# Altium footprint library M4QIDB-PCB-01.PcbLib: 64 footprints (part 1 of 4)
Each footprint in its own frame and in the unit in brackets; x right, y up, seen from the top. Pads: shape width x height; smd on the part's side, far side on the other; paste and mask are expansions set on the pad; w line width, h text height; cw(c..) or ccw(c..) is an arc to the next point about the centre after c.
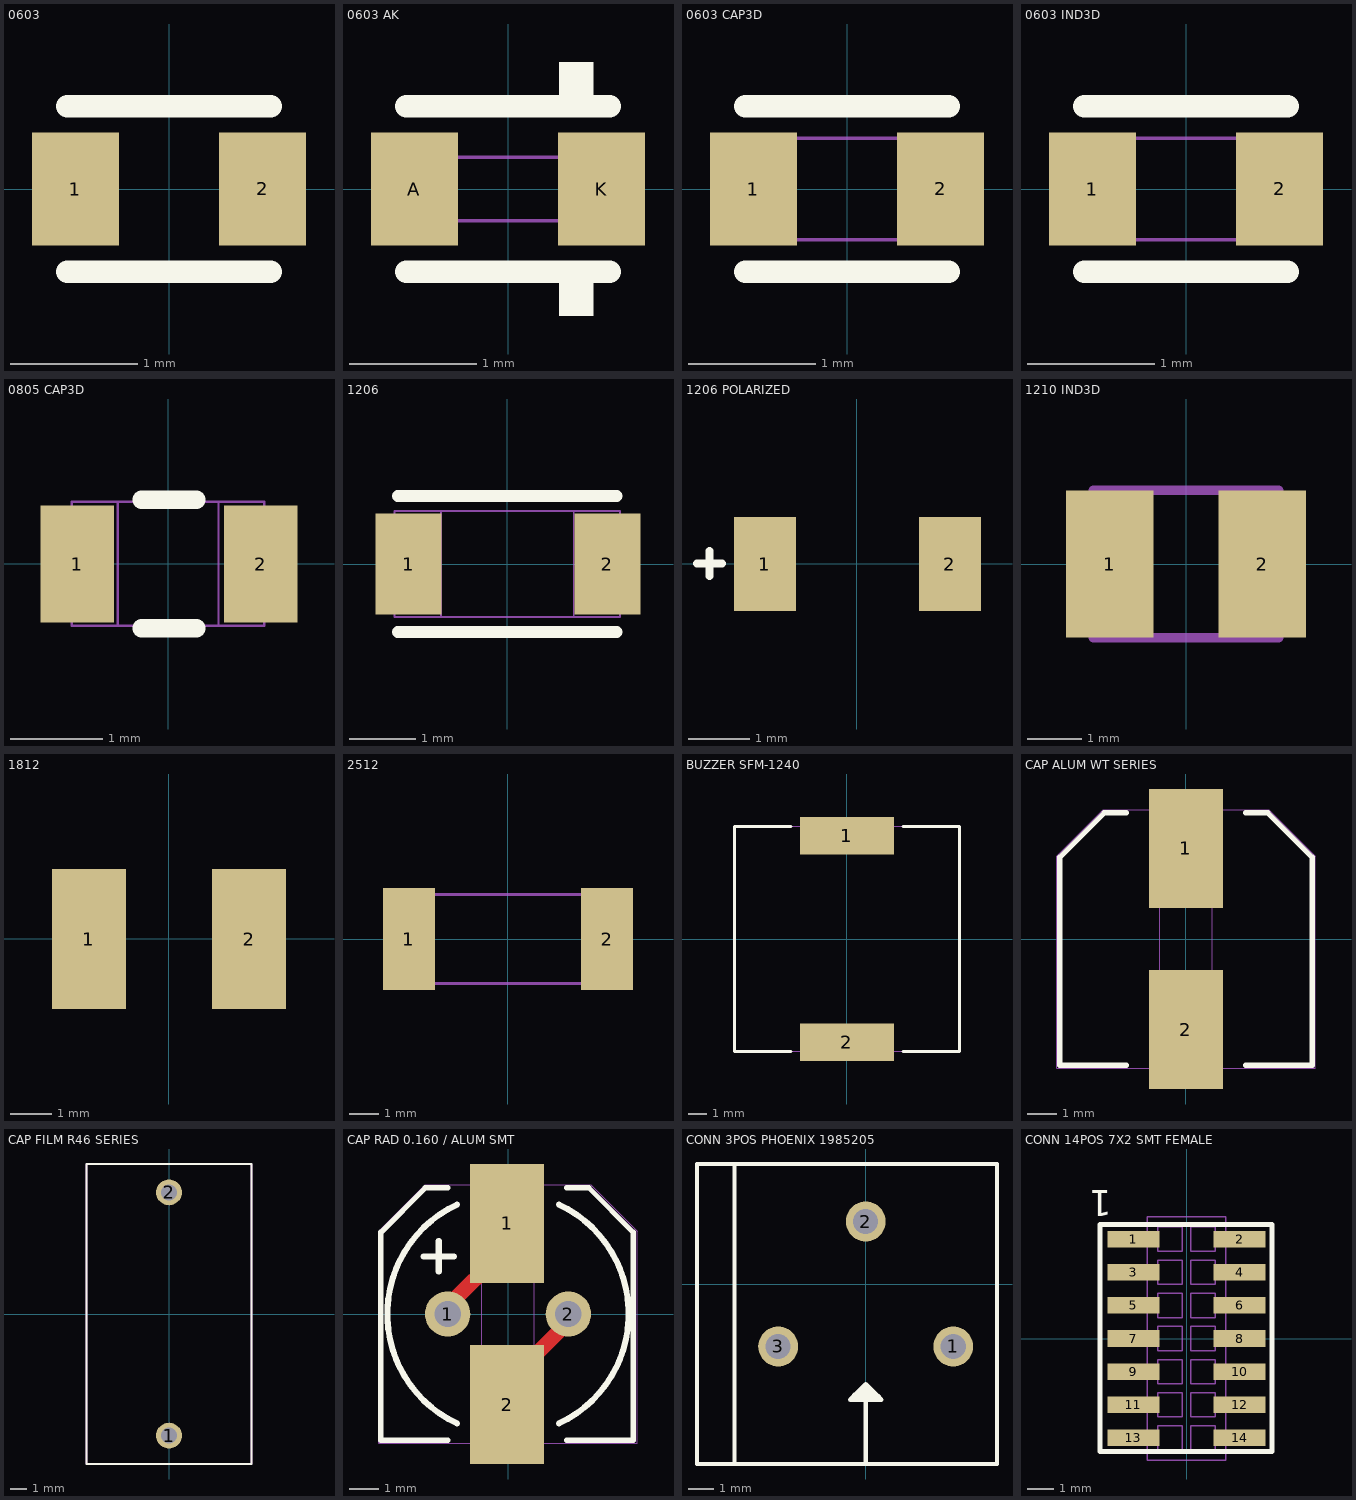
[diagram p0: the footprints below, top view; thin cyan lines are the x and y axes]

## 0603 [mil]
pads (2):
  rect 27x35 smd: 1(-29,0) 2(29,0)
Top Overlay:
  lines w7: -31.5,-25.59 31.5,-25.59 ; -31.5,25.59 31.5,25.59
3D body: height 21.65, standoff 0, extent -33.46,-17.71 -23.62,17.72
3D body: height 21.65, standoff 0, extent 23.63,-17.71 33.47,17.72
3D body: height 21.65, standoff 0, extent -23.62,-17.71 23.63,17.72

## 0603 AK [mil]
pads (2):
  rect 27x35 smd: A(-29,0) K(29,0)
Top Overlay:
  rectangle: 15.75,25.59 26.57,39.37
  region: 26.58,-25.59 15.75,-25.59 15.75,-39.37 26.58,-39.37
  lines w7: -31.5,-25.59 31.5,-25.59 ; -31.5,25.59 31.5,25.59
Mechanical 7:
  lines w1: -23.62,-9.84 23.62,-9.84 23.62,9.84 -23.62,9.84 -23.62,-9.84
3D body: height 29.53, standoff 9.84, extent -23.62,-9.84 23.62,9.84
3D body: height 9.84, standoff 0, extent -23.62,-17.71 23.63,17.72
3D body: height 9.84, standoff 0, extent 23.63,-17.71 33.47,17.72
3D body: height 9.84, standoff 0, extent -33.46,-17.71 -23.62,17.72

## 0603 CAP3D [mil]
pads (2):
  rect 27x35 smd: 1(-29,0) 2(29,0)
Top Overlay:
  lines w7: -31.5,-25.59 31.5,-25.59 ; -31.5,25.59 31.5,25.59
Mechanical 7:
  lines w1: -23.62,-15.75 -23.62,15.75 ; 23.62,-15.75 23.62,15.75 ; -37.4,-15.75 -37.4,15.75 37.4,15.75 37.4,-15.75 -37.4,-15.75
3D body: height 35.43, standoff 0, extent -37.4,-15.75 -23.62,15.75
3D body: height 35.43, standoff 0, extent -23.62,-15.75 23.62,15.75
3D body: height 35.43, standoff 0, extent 23.62,-15.75 37.4,15.74

## 0603 IND3D [mil]
pads (2):
  rect 27x35 smd: 1(-29,0) 2(29,0)
Top Overlay:
  lines w7: -31.5,-25.59 31.5,-25.59 ; -31.5,25.59 31.5,25.59
Mechanical 7:
  lines w1: -23.62,-15.75 -23.62,15.75 ; 23.62,-15.75 23.62,15.75 ; -37.4,-15.75 37.4,-15.75 37.4,15.75 -37.4,15.75 -37.4,-15.75
3D body: height 31.5, standoff 0, extent 23.62,-15.75 37.4,15.74
3D body: height 31.5, standoff 0, extent -23.62,-15.75 23.62,15.75
3D body: height 31.5, standoff 0, extent -37.4,-15.75 -23.62,15.75

## 0805 CAP3D [mm]
pads (2):
  rect 0.8x1.27 smd: 1(-0.99,-0.003) 2(1.011,-0.003)
Top Overlay:
  lines w0.2: -0.289,-0.703 0.31,-0.703 ; -0.289,0.697 0.31,0.697
Mechanical 7:
  lines w0.025: -0.55,-0.675 -0.55,0.675 ; 0.55,-0.675 0.55,0.675 ; -1.05,-0.675 -1.05,0.675 1.05,0.675 1.05,-0.675 -1.05,-0.675
3D body: height 0.95, standoff 0, extent -1.05,-0.675 -0.55,0.675
3D body: height 0.95, standoff 0, extent 0.55,-0.675 1.05,0.675
3D body: height 0.95, standoff 0, extent -0.55,-0.675 0.55,0.675

## 1206 [mm]
pads (2):
  rect 1x1.524 smd: 1(-1.489,-0.003) 2(1.51,-0.003)
Top Overlay:
  lines w0.178: -1.651,-1.025 1.651,-1.025 ; -1.651,1.025 1.651,1.025
Mechanical 7:
  lines w0.025: -1.7,-0.801 -1.7,0.799 1.7,0.799 ; -1.7,-0.798 1.7,-0.798 1.7,0.802 ; -1,-0.798 -1,0.799 ; 1,-0.798 1,0.799
3D body: height 1.3, standoff 0, extent 1,-0.799 1.7,0.801
3D body: height 1.3, standoff 0, extent -1.7,-0.801 -1,0.799
3D body: height 1.3, standoff 0, extent -1,-0.798 1,0.799

## 1206 POLARIZED [mm]
pads (2):
  rect 1x1.524 smd: 1(-1.489,-0.003) 2(1.51,-0.003)
Top Overlay:
  lines w0.127: -2.591,0.003 -2.184,0.003 ; -2.388,-0.2 -2.388,0.206

## 1210 IND3D [mm]
pads (2):
  rect 1.6x2.7 smd: 1(-1.4,0) 2(1.4,0)
Mechanical 7:
  lines w0.178: -1,-1.35 -1,1.35 ; 1,-1.35 1,1.35 ; -1.7,-1.35 1.7,-1.35 1.7,1.35 -1.7,1.35 -1.7,-1.35
3D body: height 1.7, standoff 0, extent -1,-1.35 1,1.35
3D body: height 1.7, standoff 0, extent -1.7,-1.35 -1,1.35
3D body: height 1.7, standoff 0, extent 1,-1.35 1.7,1.35

## 1812 [mm]
pads (2):
  rect 1.8x3.4 smd: 1(-1.94,-0.003) 2(1.961,-0.003)

## 2512 [mm]
pads (2):
  rect 1.8x3.5 smd: 1(-3.4,0) 2(3.4,0)
Mechanical 7:
  lines w0.1: -2.667,-1.524 -2.667,1.524 ; 2.667,-1.524 2.667,1.524 ; -3.175,-1.524 3.175,-1.524 3.175,1.524 -3.175,1.524 -3.175,-1.524
3D body: height 0.76, standoff 0, extent 2.667,-1.524 3.175,1.524
3D body: height 0.76, standoff 0, extent -2.667,-1.524 2.667,1.524
3D body: height 0.76, standoff 0, extent -3.175,-1.524 -2.667,1.524

## BUZZER SFM-1240 [mm]
pads (2):
  rect 5x2 smd: 1(0,5.5) 2(0,-5.5)
Top Overlay:
  lines w0.178: -3,-6 -6,-6 -6,6 -3,6 ; 3,-6 6,-6 6,6 3,6
Mechanical 7:
  lines w0.025: -2,6 -2,4.8 2,4.8 2,6 ; -6,-6 6,-6 6,6 -6,6 -6,-6
3D body: height 0.7, standoff 0, extent -2,4.8 2,6
3D body: height 0.7, standoff 0, extent -2,-6 2,-4.8
3D body: height 0.7, standoff 0, extent -6,-6 6,6
3D body: height 3, standoff 0.7, extent -6,-6 6,6

## CAP ALUM WT SERIES [mm]
pads (2):
  rect 2.5x4 smd: 1(0,3.05) 2(0,-3.05)
Top Overlay:
  lines w0.178: -4.25,2.25 -4.25,2.75 -2.75,4.25 -2,4.25 ; -4.25,2.7 -4.25,2.65 -4.25,-4.25 -2,-4.25 ; 2,-4.25 4.25,-4.25 4.25,2.65 ; 2,4.25 2.75,4.25 4.25,2.75 4.25,2.125
Mechanical 7:
  lines w0.025: -1.016,-4.35 -0.889,-4.35 -0.889,4.35 ; 0.889,-4.35 0.889,4.35 ; -4.35,-4.35 -4.35,2.794 -2.794,4.35 2.794,4.35 4.35,2.794 4.35,-4.35 -4.35,-4.35 ; -0.55,-4.45 0.55,-4.45 0.55,-2.1 ccw(c0,-2.1) -0.55,-2.1 -0.55,-4.45 ; -0.55,2.1 ccw(c0,2.1) 0.55,2.1 0.55,4.45 -0.55,4.45 -0.55,2.1
3D body: height 1, standoff 0.2, extent 0.889,-4.35 4.35,4.35
3D body: height 1, standoff 0.3, extent -0.889,-4.35 0.889,4.35
3D body: height 11.3, standoff 1, extent -4.216,-4.241 4.25,4.242
3D body: height 1, standoff 0.2, extent -4.35,-4.35 -0.889,4.35
3D body: height 0.3, standoff 0, extent -0.55,2.1 0.55,4.45
3D body: height 0.3, standoff 0, extent -0.55,1.551 0.546,2.649
3D body: height 0.3, standoff 0, extent -0.55,-4.45 0.55,-2.1
3D body: height 0.3, standoff 0, extent -0.546,-2.649 0.55,-1.551

## CAP FILM R46 SERIES [mm]
height 16
pads (2):
  round 1.6 hole 1 paste+0: 1(0,-7.5) 2(0,7.5)
Top Overlay:
  lines w0.127: -5.1,-9.25 -5.1,9.25 5.1,9.25 5.1,-9.25 -5.1,-9.25
Mechanical 7:
  lines w0.127: -5.1,-9.25 -5.1,9.25 5.1,9.25 5.1,0.95 5.1,-9.25 -5.1,-9.25
3D body: height 0, standoff -4, extent -0.397,7.101 0.4,7.899
3D body: height 0, standoff -4, extent -0.397,-7.899 0.4,-7.101
3D body: height 16, standoff 0, extent -5.1,-9.25 5.1,9.25

## CAP RAD 0.160 / ALUM SMT [mil]
pads (4):
  round 60 hole 35: 1(-80,0) 2(80,0)
  rect 98.43x157.48 smd: 1(-1.26,120.08) 2(-1.26,-120.08)
Top Layer:
  lines w20: -80,0 -80,9.84 -8.15,81.69 -8.15,106.3 ; 12.52,-77.76 80,-10.28 80,0
Top Overlay:
  lines w7: -168.58,88.58 -168.58,108.27 -109.53,167.32 -80,167.32 ; -168.58,106.3 -168.58,104.33 -168.58,-167.32 -80,-167.32 ; 77.48,-167.32 166.06,-167.32 166.06,104.33 ; 77.48,167.32 107.01,167.32 166.06,108.27 166.06,83.66
  lines w8: -111.81,76.5 -71.81,76.5 ; -91.81,56.5 -91.81,96.5 ; -67.62,-145.01 cw(c0,0) -67.62,145.01 ; 67.62,-145.01 ccw(c0,0) 67.62,145.01
Mechanical 7:
  lines w0.98: -21.65,-82.67 cw(c0,-82.67) 21.65,-82.67 ; -21.65,82.68 ccw(c0,82.68) 21.65,82.68
  lines w1: -40,-171.25 -35,-171.25 -35,171.27 ; -21.65,-82.67 -21.65,-175.19 21.65,-175.19 21.65,-82.67 ; -21.65,82.68 -21.65,175.2 21.65,175.2 21.65,82.68 ; 35,-171.25 35,171.27 ; -171.26,-171.25 171.26,-171.25 171.26,110.01 110,171.27 -110,171.27 -171.26,110.01 -171.26,-171.25
3D body: height 11.81, standoff 0, extent -21.48,-104.28 21.66,-61.06
3D body: height 11.81, standoff 0, extent -21.65,-175.19 21.65,-82.67
3D body: height 11.81, standoff 0, extent -21.66,61.07 21.48,104.29
3D body: height 11.81, standoff 0, extent -21.65,82.68 21.65,175.2
3D body: height 39.37, standoff 7.87, extent -171.26,-171.25 -35,171.27
3D body: height 444.88, standoff 39.37, extent -166,-166.98 167.32,167
3D body: height 39.37, standoff 11.81, extent -35,-171.25 35,171.27
3D body: height 39.37, standoff 7.87, extent 35,-171.25 171.26,171.27

## CONN 3POS PHOENIX 1985205 [mm]
pads (3):
  round 1.6 hole 1: 1(3.5,-2.5) 2(0,2.5) 3(-3.5,-2.5)
Top Overlay:
  lines w0.178: -0.075,-4.25 0.25,-4.25 0.325,-4.325 -0.325,-4.325 -0.475,-4.475 0.475,-4.475 0.625,-4.625 ; 0,-7.2 0,-4 ; -5.25,-7.2 -6.75,-7.2 -6.75,4.8 -5.25,4.8 ; -5.25,-7.2 -5.25,4.8 ; -5.25,-7.2 5.25,-7.2 5.25,4.8 -5.25,4.8 ; 0,-4 0.625,-4.625 ; 0,-4 -0.625,-4.625 0.625,-4.625
3D body: height 13.1, standoff -3.5, extent -6.75,-7.2 5.25,4.8

## CONN 14POS 7X2 SMT FEMALE [mm]
pads (14):
  rect 2x0.635 smd: 1(-2.032,3.81) 2(2.032,3.81) 3(-2.032,2.54) 4(2.032,2.54) 5(-2.032,1.27) 6(2.032,1.27) 7(-2.032,0) 8(2.032,0) 9(-2.032,-1.27) 10(2.032,-1.27) 11(-2.032,-2.54) 12(2.032,-2.54) 13(-2.032,-3.81) 14(2.032,-3.81)
Top Overlay:
  lines w0.2: -3.319,-4.327 3.281,-4.327 3.281,4.373 -3.319,4.373 -3.319,-4.327
  text "1" at -2.87,5.69 h1
Mechanical 7:
  lines w0.05: -1.5,-4.01 -2.5,-4.01 -2.5,-3.61 -1.5,-3.61 ; -1.5,-2.74 -2.5,-2.74 -2.5,-2.34 -1.5,-2.34 ; -1.5,-1.47 -2.5,-1.47 -2.5,-1.07 -1.5,-1.07 ; -1.5,-0.2 -2.5,-0.2 -2.5,0.2 -1.5,0.2 ; -1.5,1.07 -2.5,1.07 -2.5,1.47 -1.5,1.47 ; -1.5,2.34 -2.5,2.34 -2.5,2.74 -1.5,2.74 ; -1.5,3.61 -2.5,3.61 -2.5,4.01 -1.5,4.01 ; 1.5,-4.01 2.5,-4.01 2.5,-3.61 1.5,-3.61 ; 1.5,-2.74 2.5,-2.74 2.5,-2.34 1.5,-2.34 ; 1.5,-1.47 2.5,-1.47 2.5,-1.07 1.5,-1.07 ; 1.5,-0.2 2.5,-0.2 2.5,0.2 1.5,0.2 ; 1.5,1.07 2.5,1.07 2.5,1.47 1.5,1.47 ; 1.5,2.34 2.5,2.34 2.5,2.74 1.5,2.74 ; 1.5,3.61 2.5,3.61 2.5,4.01 1.5,4.01 ; -1.5,-4.675 1.5,-4.675 1.5,4.675 -1.5,4.675 -1.5,-4.675 ; -1.1,-4.275 -0.635,-4.275 -0.17,-4.275 -0.17,-3.345 -0.635,-3.345 -1.1,-3.345 -1.1,-3.81 -1.1,-4.275 ; -1.1,-3.005 -0.635,-3.005 -0.17,-3.005 -0.17,-2.075 -0.635,-2.075 -1.1,-2.075 -1.1,-2.54 -1.1,-3.005 ; -1.1,-1.735 -0.635,-1.735 -0.17,-1.735 -0.17,-0.805 -0.635,-0.805 -1.1,-0.805 -1.1,-1.27 -1.1,-1.735 ; -1.1,-0.465 -0.635,-0.465 -0.17,-0.465 -0.17,0.465 -0.635,0.465 -1.1,0.465 -1.1,0 -1.1,-0.465 ; -1.1,0.805 -0.635,0.805 -0.17,0.805 -0.17,1.735 -0.635,1.735 -1.1,1.735 -1.1,1.27 -1.1,0.805 ; -1.1,2.075 -0.635,2.075 -0.17,2.075 -0.17,3.005 -0.635,3.005 -1.1,3.005 -1.1,2.54 -1.1,2.075 ; -1.1,3.345 -0.635,3.345 -0.17,3.345 -0.17,4.275 -0.635,4.275 -1.1,4.275 -1.1,3.81 -1.1,3.345 ; 0.17,-4.275 0.17,-3.345 0.635,-3.345 1.1,-3.345 1.1,-3.81 1.1,-4.275 0.635,-4.275 0.17,-4.275 ; 0.17,-3.005 0.17,-2.075 0.635,-2.075 1.1,-2.075 1.1,-2.54 1.1,-3.005 0.635,-3.005 0.17,-3.005 ; 0.17,-1.735 0.17,-0.805 0.635,-0.805 1.1,-0.805 1.1,-1.27 1.1,-1.735 0.635,-1.735 0.17,-1.735 ; 0.17,-0.465 0.17,0.465 0.635,0.465 1.1,0.465 1.1,0 1.1,-0.465 0.635,-0.465 0.17,-0.465 ; 0.17,0.805 0.17,1.735 0.635,1.735 1.1,1.735 1.1,1.27 1.1,0.805 0.635,0.805 0.17,0.805 ; 0.17,2.075 0.17,3.005 0.635,3.005 1.1,3.005 1.1,2.54 1.1,2.075 0.635,2.075 0.17,2.075 ; 0.17,3.345 0.17,4.275 0.635,4.275 1.1,4.275 1.1,3.81 1.1,3.345 0.635,3.345 0.17,3.345
3D body: height 4.4, standoff 3, extent -1.1,-4.675 1.1,-4.275
3D body: height 4.4, standoff 3, extent -1.1,4.275 1.1,4.675
3D body: height 4.4, standoff 3, extent -1.1,3.005 1.1,3.345
3D body: height 4.4, standoff 3, extent -1.1,1.735 1.1,2.075
3D body: height 4.4, standoff 3, extent -1.1,0.465 1.1,0.805
3D body: height 4.4, standoff 3, extent -1.1,-0.805 1.1,-0.465
3D body: height 4.4, standoff 3, extent -1.1,-2.075 1.1,-1.735
3D body: height 4.4, standoff 3, extent -1.1,-3.345 1.1,-3.005
3D body: height 4.4, standoff 3, extent -1.5,-4.675 -1.1,4.675
3D body: height 4.4, standoff 3, extent -0.17,-4.675 0.17,4.675
3D body: height 4.4, standoff 3, extent 1.1,-4.675 1.5,4.675
3D body: height 4, standoff 0, extent -1.5,-4.675 1.5,4.675
3D body: height 4.4, standoff 3, extent -1.1,3.345 -0.17,4.275
3D body: height 0.3, standoff 0, extent -2.5,3.61 -1.5,4.01
3D body: height 4.4, standoff 3, extent -1.1,2.075 -0.17,3.005
3D body: height 0.3, standoff 0, extent -2.5,2.34 -1.5,2.74
3D body: height 4.4, standoff 3, extent -1.1,0.805 -0.17,1.735
3D body: height 0.3, standoff 0, extent -2.5,1.07 -1.5,1.47
3D body: height 4.4, standoff 3, extent -1.1,-0.465 -0.17,0.465
3D body: height 0.3, standoff 0, extent -2.5,-0.2 -1.5,0.2
3D body: height 4.4, standoff 3, extent -1.1,-1.735 -0.17,-0.805
3D body: height 0.3, standoff 0, extent -2.5,-1.47 -1.5,-1.07
3D body: height 4.4, standoff 3, extent -1.1,-3.005 -0.17,-2.075
3D body: height 0.3, standoff 0, extent -2.5,-2.74 -1.5,-2.34
3D body: height 4.4, standoff 3, extent -1.1,-4.275 -0.17,-3.345
3D body: height 0.3, standoff 0, extent -2.5,-4.01 -1.5,-3.61
3D body: height 0.3, standoff 0, extent 1.5,3.61 2.5,4.01
3D body: height 4.4, standoff 3, extent 0.17,3.345 1.1,4.275
3D body: height 0.3, standoff 0, extent 1.5,2.34 2.5,2.74
3D body: height 4.4, standoff 3, extent 0.17,2.075 1.1,3.005
3D body: height 0.3, standoff 0, extent 1.5,1.07 2.5,1.47
3D body: height 4.4, standoff 3, extent 0.17,0.805 1.1,1.735
3D body: height 0.3, standoff 0, extent 1.5,-0.2 2.5,0.2
3D body: height 4.4, standoff 3, extent 0.17,-0.465 1.1,0.465
3D body: height 0.3, standoff 0, extent 1.5,-1.47 2.5,-1.07
3D body: height 4.4, standoff 3, extent 0.17,-1.735 1.1,-0.805
3D body: height 0.3, standoff 0, extent 1.5,-2.74 2.5,-2.34
3D body: height 4.4, standoff 3, extent 0.17,-3.005 1.1,-2.075
3D body: height 0.3, standoff 0, extent 1.5,-4.01 2.5,-3.61
3D body: height 4.4, standoff 3, extent 0.17,-4.275 1.1,-3.345